# EAGLE library part DVI-D-V (library con-molex)
CONNECTOR MiroCross(TM)-DVI i/0 plug and receptacle connector system (scart)
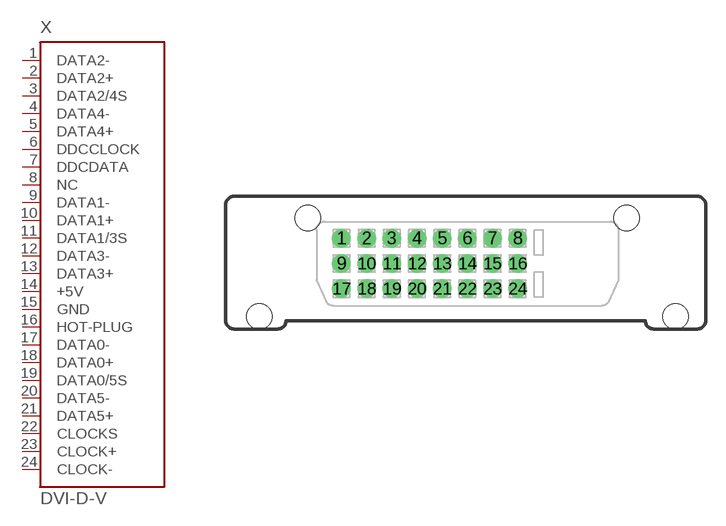
[diagram p11: symbol with the pads of DVI-D-V; footprint DVI-D-V]

Designator prefix X

## DVI-D-V (MF: MOLEX; OC_FARNELL: unknown; OC_NEWARK: unknown)  [DVI-D-V]
1  DATA2-  pas
2  DATA2+  pas
3  DATA2/4S  pas
4  DATA4-  pas
5  DATA4+  pas
6  DDCCLOCK  pas
7  DDCDATA  pas
8  NC  pas
9  DATA1-  pas
10  DATA1+  pas
11  DATA1/3S  pas
12  DATA3-  pas
13  DATA3+  pas
14  +5V  pwr
15  GND  pwr
16  HOT-PLUG  pas
17  DATA0-  pas
18  DATA0+  pas
19  DATA0/5S  pas
20  DATA5-  pas
21  DATA5+  pas
22  CLOCKS  pas
23  CLOCK+  pas
24  CLOCK-  pas

## Footprint DVI-D-V (pad centres in mm)
CONNECTOR MiroCross(TM)-DVI i/0 plug and receptacle connector system (scart)
drill 0.864 pad 1.397: 1 -9.525,1.27; 2 -7.62,1.27; 3 -5.715,1.27; 4 -3.81,1.27; 5 -1.905,1.27; 6 0,1.27; 7 1.905,1.27; 8 3.81,1.27; 9 -9.525,-0.635; 10 -7.62,-0.635; 11 -5.715,-0.635; 12 -3.81,-0.635; 13 -1.905,-0.635; 14 0,-0.635; 15 1.905,-0.635; 16 3.81,-0.635; 17 -9.525,-2.54; 18 -7.62,-2.54; 19 -5.715,-2.54; 20 -3.81,-2.54; 21 -1.905,-2.54; 22 0,-2.54; 23 1.905,-2.54; 24 3.81,-2.54
hole 1.93 at -12.065,2.794
hole 1.93 at 12.065,2.794
hole 1.93 at -15.748,-4.648
hole 1.93 at 15.748,-4.648